# EAGLE library part CON-MOLEX_52559-0692 (library xmos_avb_brd_V4)
FFC/FPC-to-Board 0.50mm (.020") SMT, Vertical, ZIF Receptacle Source: http://www.molex.com/product/ffc/52559.html
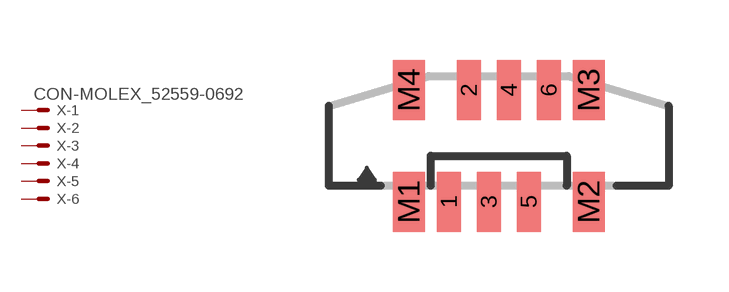
[diagram p10: symbol with the pads of CON-MOLEX_52559-0692; footprint CON-MOLEX_52559-0692]

Designator prefix X; gates -1=CON-MOLEX_MV:1 -2=CON-MOLEX_M:1 -3=CON-MOLEX_M:1 -4=CON-MOLEX_M:1 -5=CON-MOLEX_M:1 -6=CON-MOLEX_M:1

## CON-MOLEX_52559-0692 (MF: MOLEX; MPN: 52559-0692; OC_FARNELL: unknown; OC_NEWARK: 92M6167)  [CON-MOLEX_52559-0692]
1  -1:S  pas
2  -2:S  pas
3  -3:S  pas
4  -4:S  pas
5  -5:S  pas
6  -6:S  pas

## Footprint CON-MOLEX_52559-0692 (pad centres in mm)
Easy-On™ Type FFC/FPC Connector, Vertical, Surface Mount, ZIF, 6 Circuits, Gold (Au) Contact Plating, High Barrier Packaging Datasheet <http://www.molex.com/pdm_docs/sd/525590652_sd.pdf>
smd 0.6 x 1.5: 1 -1.25,-1.4; 2 -0.75,1.4; 3 -0.25,-1.4; 4 0.25,1.4; 5 0.75,-1.4; 6 1.25,1.4
smd 0.8 x 1.5: M1 -2.25,-1.4; M2 2.25,-1.4; M3 2.25,1.4; M4 -2.25,1.4